# Altium footprint library LEDs.PcbLib: 17 footprints (part 2 of 2)
Each footprint in its own frame and in the unit in brackets; x right, y up, seen from the top. Pads: shape width x height; smd on the part's side, far side on the other; paste and mask are expansions set on the pad; w line width, h text height; cw(c..) or ccw(c..) is an arc to the next point about the centre after c.
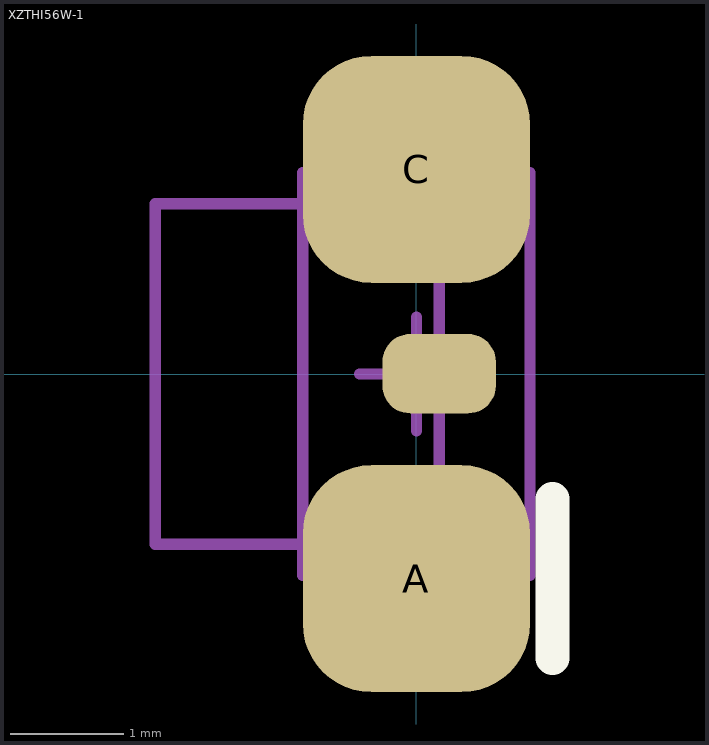
[diagram p1: the footprint, top view; thin cyan lines are the x and y axes]

## XZTHI56W-1 [mm]
height 0.8
pads (3):
  rrect60% 2x2 smd paste-0.03: A(0,-1.802) C(0,1.802)
  rrect70% 1x0.7 smd paste-0.06: ""(0.2,0.002)
Top Overlay:
  lines w0.3: 1.2,-2.5 1.2,-1.1
Mechanical 13:
  lines w0.1: -2.3,-1.5 0.2,-1.5 0.2,1.5 -2.3,1.5 -2.3,-1.5
Mechanical 15:
  lines w0.1: -0.5,0 0.5,0 ; 0,-0.5 0,0.5 ; -1,-1.775 1,-1.775 1,1.775 -1,1.775 -1,-1.775
3D body "XZxx56x-1.step": height 1, standoff 0, extent -2.292,-1.5 0.2,1.5